# Altium schematic symbol library Cyrstal.SchLib: 1 symbol
Pins are listed as number, name and electrical type; pins without a type are passive.

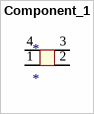
[diagram p0: symbol Component_1]

## Component_1
designator *
footprint DFN220P355X80-4N (DFN, 4-Leads, Body 2.90x3.55mm, Pitch 2.20mm, IPC Medium Density)
pins: 1, 2, 3, 4